# EAGLE library part ISO7320CQDRQ1 (library SamacSys_Parts)
TEXAS INSTRUMENTS - ISO7320CQDRQ1 - DIGITAL ISOLATOR, SOIC-8 Source: Datasheet <http://www.ti.com/general/docs/lit/getliterature.tsp?genericPartNumber=ISO7320-Q1&&fileType=pdf>
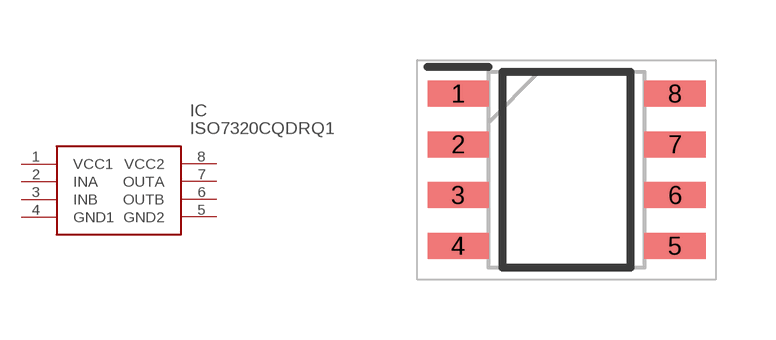
[diagram p2: symbol with the pads of SOIC127P600X175-8N; footprint SOIC127P600X175-8N]

Designator prefix IC

## ISO7320CQDRQ1 (Description: TEXAS INSTRUMENTS - ISO7320CQDRQ1 - DIGITAL ISOLATOR, SOIC-8; Height: 1.75mm; Manufacturer_Name: Texas Instruments; Manufacturer_Part_Number: ISO7320CQDRQ1; Mouser_Part_Number: 595-ISO7320CQDRQ1; Mouser_Price-Stock: https://www.mouser.com/Search/Refine.aspx?Keyword=595-ISO7320CQDRQ1)  [SOIC127P600X175-8N]
1  VCC1
2  INA
3  INB
4  GND1
5  GND2
6  OUTB
7  OUTA
8  VCC2

## Footprint SOIC127P600X175-8N (pad centres in mm)
D0008B (SOIC-8)
smd 1.528 x 0.65: 1 -2.711,1.905; 2 -2.711,0.635; 3 -2.711,-0.635; 4 -2.711,-1.905; 5 2.711,-1.905; 6 2.711,-0.635; 7 2.711,0.635; 8 2.711,1.905